# Altium footprint library adafruit.PCBLIB: 643 footprints (part 2 of 41)
Each footprint in its own frame and in the unit in brackets; x right, y up, seen from the top. Pads: shape width x height; smd on the part's side, far side on the other; paste and mask are expansions set on the pad; w line width, h text height; cw(c..) or ccw(c..) is an arc to the next point about the centre after c.
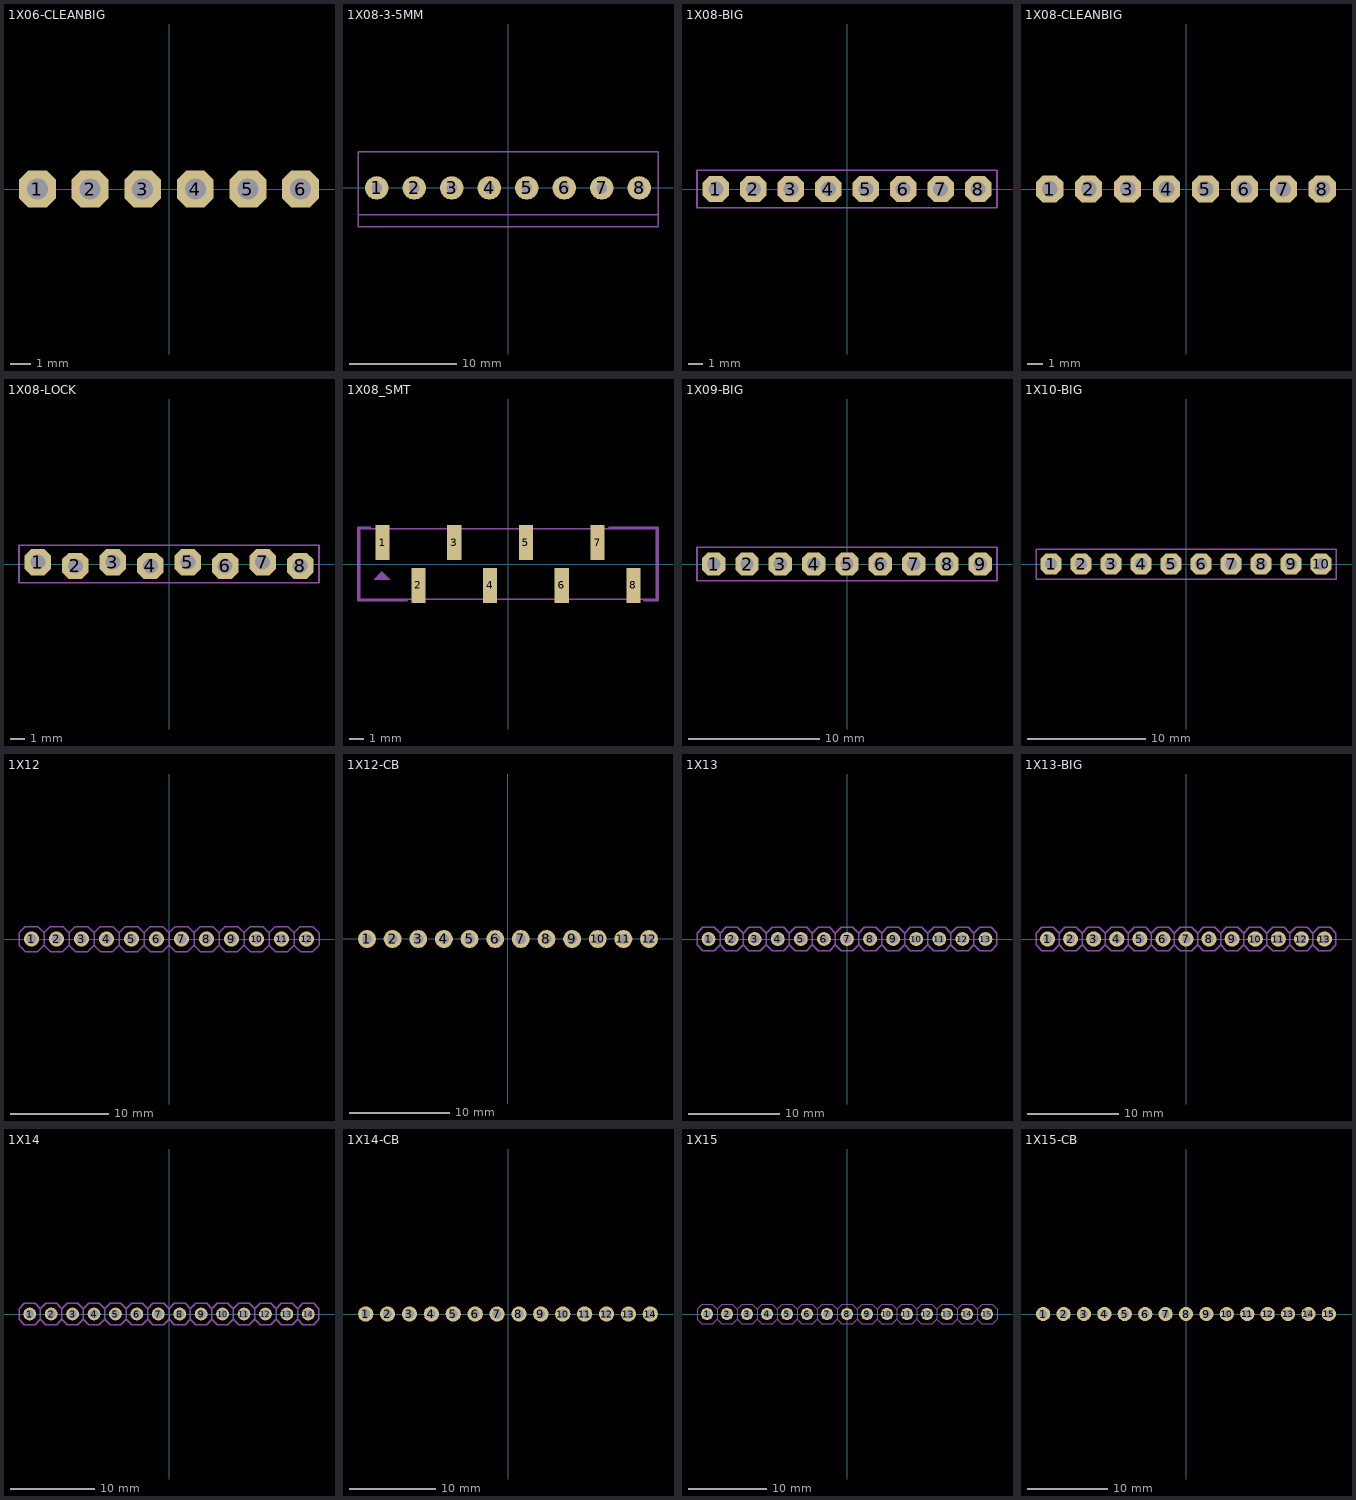
[diagram p1: the footprints below, top view; thin cyan lines are the x and y axes]

## 1X06-CLEANBIG [mil]
pads (6):
  oct 70x70 / inner round 64.67 / far side oct 70x70 hole 40: 1(-250,0) 2(-150,0) 3(-50,0) 4(50,0) 5(150,0) 6(250,0)
tDocu:
  region: 140,-10 140,10 160,10 160,-10
  region: 40,-10 40,10 60,10 60,-10
  region: -60,-10 -60,10 -40,10 -40,-10
  region: -160,-10 -160,10 -140,10 -140,-10
  region: -260,-10 -260,10 -240,10 -240,-10
  region: 240,-10 240,10 260,10 260,-10

## 1X08-3-5MM [mil]
pads (8):
  round 86 hole 39.37: 1(-482.28,0) 2(-344.49,0) 3(-206.69,0) 4(-68.9,0) 5(68.9,0) 6(206.69,0) 7(344.49,0) 8(482.28,0)
tPlace:
  lines w5: -551.18,-98.43 -551.18,133.86 551.18,133.86 551.18,-98.43 ; -551.18,-98.43 -551.18,-141.73 551.18,-141.73 551.18,-98.43 ; -551.18,-98.43 551.18,-98.43

## 1X08-BIG [mil]
pads (8):
  oct 70x70 / inner round 64.67 / far side oct 70x70 hole 40: 1(-350,0) 2(-250,0) 3(-150,0) 4(-50,0) 5(50,0) 6(150,0) 7(250,0) 8(350,0)
tDocu:
  region: 240,-10 240,10 260,10 260,-10
  region: 140,-10 140,10 160,10 160,-10
  region: 40,-10 40,10 60,10 60,-10
  region: -60,-10 -60,10 -40,10 -40,-10
  region: -160,-10 -160,10 -140,10 -140,-10
  region: -260,-10 -260,10 -240,10 -240,-10
  region: -360,-10 -360,10 -340,10 -340,-10
  region: 340,-10 340,10 360,10 360,-10
tPlace:
  lines w5: -400,-50 400,-50 400,50 -400,50 -400,-50

## 1X08-CLEANBIG [mil]
pads (8):
  oct 70x70 / inner round 64.67 / far side oct 70x70 hole 40: 1(-350,0) 2(-250,0) 3(-150,0) 4(-50,0) 5(50,0) 6(150,0) 7(250,0) 8(350,0)
tDocu:
  region: 240,-10 240,10 260,10 260,-10
  region: 140,-10 140,10 160,10 160,-10
  region: 40,-10 40,10 60,10 60,-10
  region: -60,-10 -60,10 -40,10 -40,-10
  region: -160,-10 -160,10 -140,10 -140,-10
  region: -260,-10 -260,10 -240,10 -240,-10
  region: -360,-10 -360,10 -340,10 -340,-10
  region: 340,-10 340,10 360,10 360,-10

## 1X08-LOCK [mil]
pads (8):
  oct 70x70 / inner round 64.67 / far side oct 70x70 hole 40: 1(-350,5) 2(-250,-5) 3(-150,5) 4(-50,-5) 5(50,5) 6(150,-5) 7(250,5) 8(350,-5)
tDocu:
  region: 240,-10 240,10 260,10 260,-10
  region: 140,-10 140,10 160,10 160,-10
  region: 40,-10 40,10 60,10 60,-10
  region: -60,-10 -60,10 -40,10 -40,-10
  region: -160,-10 -160,10 -140,10 -140,-10
  region: -260,-10 -260,10 -240,10 -240,-10
  region: -360,-10 -360,10 -340,10 -340,-10
  region: 340,-10 340,10 360,10 360,-10
tPlace:
  lines w5: -400,-50 400,-50 400,50 -400,50 -400,-50

## 1X08_SMT [mm]
pads (8):
  rect 1x2.5 smd: 1(-8.89,1.52) 2(-6.35,-1.52) 3(-3.81,1.52) 4(-1.27,-1.52) 5(1.27,1.52) 6(3.81,-1.52) 7(6.35,1.52) 8(8.89,-1.52)
tDocu:
  lines w0.127: -10.54,-2.5 10.54,-2.5 10.54,2.5 -10.54,2.5 -10.54,-2.5
tPlace:
  region: -8.94,-0.5 -9.54,-1.1 -8.34,-1.1
  lines w0.127: -9.74,2.6 -10.64,2.6 -10.64,-2.6 -7.14,-2.6 ; 7.14,2.6 10.64,2.6 10.64,-2.6 9.64,-2.6

## 1X09-BIG [mil]
pads (9):
  oct 70x70 / inner round 64.67 / far side oct 70x70 hole 40: 1(-400,0) 2(-300,0) 3(-200,0) 4(-100,0) 5(0,0) 6(100,0) 7(200,0) 8(300,0) 9(400,0)
tDocu:
  region: 190,-10 190,10 210,10 210,-10
  region: 90,-10 90,10 110,10 110,-10
  region: -10,-10 -10,10 10,10 10,-10
  region: -110,-10 -110,10 -90,10 -90,-10
  region: -210,-10 -210,10 -190,10 -190,-10
  region: -310,-10 -310,10 -290,10 -290,-10
  region: -410,-10 -410,10 -390,10 -390,-10
  region: 290,-10 290,10 310,10 310,-10
  region: 390,-10 390,10 410,10 410,-10
tPlace:
  lines w5: -450,-50 450,-50 450,50 -450,50 -450,-50

## 1X10-BIG [mil]
pads (10):
  oct 70x70 / inner round 64.67 / far side oct 70x70 hole 40: 1(-450,0) 2(-350,0) 3(-250,0) 4(-150,0) 5(-50,0) 6(50,0) 7(150,0) 8(250,0) 9(350,0) 10(450,0)
tDocu:
  region: 140,-10 140,10 160,10 160,-10
  region: 40,-10 40,10 60,10 60,-10
  region: -60,-10 -60,10 -40,10 -40,-10
  region: -160,-10 -160,10 -140,10 -140,-10
  region: -260,-10 -260,10 -240,10 -240,-10
  region: -360,-10 -360,10 -340,10 -340,-10
  region: -460,-10 -460,10 -440,10 -440,-10
  region: 240,-10 240,10 260,10 260,-10
  region: 340,-10 340,10 360,10 360,-10
  region: 440,-10 440,10 460,10 460,-10
tPlace:
  lines w5: -500,-50 500,-50 500,50 -500,50 -500,-50

## 1X12 [mil]
pads (12):
  round 60 hole 40: 1(-550,0) 2(-450,0) 3(-350,0) 4(-250,0) 5(-150,0) 6(-50,0) 7(50,0) 8(150,0) 9(250,0) 10(350,0) 11(450,0) 12(550,0)
tDocu:
  region: 440,-10 440,10 460,10 460,-10
  region: 340,-10 340,10 360,10 360,-10
  region: 240,-10 240,10 260,10 260,-10
  region: 140,-10 140,10 160,10 160,-10
  region: 40,-10 40,10 60,10 60,-10
  region: -60,-10 -60,10 -40,10 -40,-10
  region: -160,-10 -160,10 -140,10 -140,-10
  region: -260,-10 -260,10 -240,10 -240,-10
  region: -360,-10 -360,10 -340,10 -340,-10
  region: -460,-10 -460,10 -440,10 -440,-10
  region: -560,-10 -560,10 -540,10 -540,-10
  region: 540,-10 540,10 560,10 560,-10
tPlace:
  lines w6: -500,-25 -500,25 ; -500,-25 -525,-50 -575,-50 -600,-25 -600,25 -575,50 -525,50 -500,25 ; -500,-25 -475,-50 -425,-50 -400,-25 ; -500,25 -475,50 -425,50 -400,25 ; -400,-25 -375,-50 -325,-50 -300,-25 ; -400,-25 -400,25 ; -400,25 -375,50 -325,50 -300,25 ; -300,-25 -300,25 ; -300,-25 -275,-50 -225,-50 -200,-25 ; -300,25 -275,50 -225,50 -200,25 ; -200,-25 -200,25 ; -200,-25 -175,-50 -125,-50 -100,-25 ; -200,25 -175,50 -125,50 -100,25 ; -100,-25 -75,-50 -25,-50 0,-25 ; -100,-25 -100,25 ; -100,25 -75,50 -25,50 0,25 ; 0,-25 0,25 ; 0,-25 25,-50 75,-50 100,-25 ; 0,25 25,50 75,50 100,25 ; 100,-25 100,25 ; 100,-25 125,-50 175,-50 200,-25 ; 100,25 125,50 175,50 200,25 ; 200,-25 225,-50 275,-50 300,-25 ; 200,-25 200,25 ; 200,25 225,50 275,50 300,25 ; 300,-25 300,25 ; 300,-25 325,-50 375,-50 400,-25 ; 300,25 325,50 375,50 400,25 ; 400,-25 400,25 ; 400,-25 425,-50 475,-50 500,-25 ; 400,25 425,50 475,50 500,25 ; 500,-25 500,25 ; 500,-25 525,-50 575,-50 600,-25 600,25 575,50 525,50 500,25

## 1X12-CB [mil]
pads (12):
  round 70 hole 40: 1(-550,0) 2(-450,0) 3(-350,0) 4(-250,0) 5(-150,0) 6(-50,0) 7(50,0) 8(150,0) 9(250,0) 10(350,0) 11(450,0) 12(550,0)
tDocu:
  region: 440,-10 440,10 460,10 460,-10
  region: 340,-10 340,10 360,10 360,-10
  region: 240,-10 240,10 260,10 260,-10
  region: 140,-10 140,10 160,10 160,-10
  region: 40,-10 40,10 60,10 60,-10
  region: -60,-10 -60,10 -40,10 -40,-10
  region: -160,-10 -160,10 -140,10 -140,-10
  region: -260,-10 -260,10 -240,10 -240,-10
  region: -360,-10 -360,10 -340,10 -340,-10
  region: -460,-10 -460,10 -440,10 -440,-10
  region: -560,-10 -560,10 -540,10 -540,-10
  region: 540,-10 540,10 560,10 560,-10

## 1X13 [mil]
pads (13):
  round 60 hole 40: 1(-600,0) 2(-500,0) 3(-400,0) 4(-300,0) 5(-200,0) 6(-100,0) 7(0,0) 8(100,0) 9(200,0) 10(300,0) 11(400,0) 12(500,0) 13(600,0)
tDocu:
  region: 490,-10 490,10 510,10 510,-10
  region: 390,-10 390,10 410,10 410,-10
  region: 290,-10 290,10 310,10 310,-10
  region: 190,-10 190,10 210,10 210,-10
  region: 90,-10 90,10 110,10 110,-10
  region: -10,-10 -10,10 10,10 10,-10
  region: -110,-10 -110,10 -90,10 -90,-10
  region: -210,-10 -210,10 -190,10 -190,-10
  region: -310,-10 -310,10 -290,10 -290,-10
  region: -410,-10 -410,10 -390,10 -390,-10
  region: -510,-10 -510,10 -490,10 -490,-10
  region: -610,-10 -610,10 -590,10 -590,-10
  region: 590,-10 590,10 610,10 610,-10
tPlace:
  lines w6: -550,-25 -550,25 ; -550,-25 -575,-50 -625,-50 -650,-25 -650,25 -625,50 -575,50 -550,25 ; -550,-25 -525,-50 -475,-50 -450,-25 ; -550,25 -525,50 -475,50 -450,25 ; -450,-25 -425,-50 -375,-50 -350,-25 ; -450,-25 -450,25 ; -450,25 -425,50 -375,50 -350,25 ; -350,-25 -350,25 ; -350,-25 -325,-50 -275,-50 -250,-25 ; -350,25 -325,50 -275,50 -250,25 ; -250,-25 -250,25 ; -250,-25 -225,-50 -175,-50 -150,-25 ; -250,25 -225,50 -175,50 -150,25 ; -150,-25 -125,-50 -75,-50 -50,-25 ; -150,-25 -150,25 ; -150,25 -125,50 -75,50 -50,25 ; -50,-25 -50,25 ; -50,-25 -25,-50 25,-50 50,-25 ; -50,25 -25,50 25,50 50,25 ; 50,-25 50,25 ; 50,-25 75,-50 125,-50 150,-25 ; 50,25 75,50 125,50 150,25 ; 150,-25 175,-50 225,-50 250,-25 ; 150,-25 150,25 ; 150,25 175,50 225,50 250,25 ; 250,-25 250,25 ; 250,-25 275,-50 325,-50 350,-25 ; 250,25 275,50 325,50 350,25 ; 350,-25 350,25 ; 350,-25 375,-50 425,-50 450,-25 ; 350,25 375,50 425,50 450,25 ; 450,-25 475,-50 525,-50 550,-25 ; 450,-25 450,25 ; 450,25 475,50 525,50 550,25 ; 550,-25 550,25 ; 550,-25 575,-50 625,-50 650,-25 650,25 625,50 575,50 550,25

## 1X13-BIG [mil]
pads (13):
  round 66 hole 40: 1(-600,0) 2(-500,0) 3(-400,0) 4(-300,0) 5(-200,0) 6(-100,0) 7(0,0) 8(100,0) 9(200,0) 10(300,0) 11(400,0) 12(500,0) 13(600,0)
tDocu:
  region: 490,-10 490,10 510,10 510,-10
  region: 390,-10 390,10 410,10 410,-10
  region: 290,-10 290,10 310,10 310,-10
  region: 190,-10 190,10 210,10 210,-10
  region: 90,-10 90,10 110,10 110,-10
  region: -10,-10 -10,10 10,10 10,-10
  region: -110,-10 -110,10 -90,10 -90,-10
  region: -210,-10 -210,10 -190,10 -190,-10
  region: -310,-10 -310,10 -290,10 -290,-10
  region: -410,-10 -410,10 -390,10 -390,-10
  region: -510,-10 -510,10 -490,10 -490,-10
  region: -610,-10 -610,10 -590,10 -590,-10
  region: 590,-10 590,10 610,10 610,-10
tPlace:
  lines w6: -550,-25 -550,25 ; -550,-25 -575,-50 -625,-50 -650,-25 -650,25 -625,50 -575,50 -550,25 ; -550,-25 -525,-50 -475,-50 -450,-25 ; -550,25 -525,50 -475,50 -450,25 ; -450,-25 -425,-50 -375,-50 -350,-25 ; -450,-25 -450,25 ; -450,25 -425,50 -375,50 -350,25 ; -350,-25 -350,25 ; -350,-25 -325,-50 -275,-50 -250,-25 ; -350,25 -325,50 -275,50 -250,25 ; -250,-25 -250,25 ; -250,-25 -225,-50 -175,-50 -150,-25 ; -250,25 -225,50 -175,50 -150,25 ; -150,-25 -125,-50 -75,-50 -50,-25 ; -150,-25 -150,25 ; -150,25 -125,50 -75,50 -50,25 ; -50,-25 -50,25 ; -50,-25 -25,-50 25,-50 50,-25 ; -50,25 -25,50 25,50 50,25 ; 50,-25 50,25 ; 50,-25 75,-50 125,-50 150,-25 ; 50,25 75,50 125,50 150,25 ; 150,-25 175,-50 225,-50 250,-25 ; 150,-25 150,25 ; 150,25 175,50 225,50 250,25 ; 250,-25 250,25 ; 250,-25 275,-50 325,-50 350,-25 ; 250,25 275,50 325,50 350,25 ; 350,-25 350,25 ; 350,-25 375,-50 425,-50 450,-25 ; 350,25 375,50 425,50 450,25 ; 450,-25 475,-50 525,-50 550,-25 ; 450,-25 450,25 ; 450,25 475,50 525,50 550,25 ; 550,-25 550,25 ; 550,-25 575,-50 625,-50 650,-25 650,25 625,50 575,50 550,25

## 1X14 [mil]
pads (14):
  round 60 hole 40: 1(-650,0) 2(-550,0) 3(-450,0) 4(-350,0) 5(-250,0) 6(-150,0) 7(-50,0) 8(50,0) 9(150,0) 10(250,0) 11(350,0) 12(450,0) 13(550,0) 14(650,0)
tDocu:
  region: 540,-10 540,10 560,10 560,-10
  region: 440,-10 440,10 460,10 460,-10
  region: 340,-10 340,10 360,10 360,-10
  region: 240,-10 240,10 260,10 260,-10
  region: 140,-10 140,10 160,10 160,-10
  region: 40,-10 40,10 60,10 60,-10
  region: -60,-10 -60,10 -40,10 -40,-10
  region: -160,-10 -160,10 -140,10 -140,-10
  region: -260,-10 -260,10 -240,10 -240,-10
  region: -360,-10 -360,10 -340,10 -340,-10
  region: -460,-10 -460,10 -440,10 -440,-10
  region: -560,-10 -560,10 -540,10 -540,-10
  region: -660,-10 -660,10 -640,10 -640,-10
  region: 640,-10 640,10 660,10 660,-10
tPlace:
  lines w6: -600,-25 -600,25 ; -600,-25 -625,-50 -675,-50 -700,-25 -700,25 -675,50 -625,50 -600,25 ; -600,-25 -575,-50 -525,-50 -500,-25 ; -600,25 -575,50 -525,50 -500,25 ; -500,-25 -475,-50 -425,-50 -400,-25 ; -500,-25 -500,25 ; -500,25 -475,50 -425,50 -400,25 ; -400,-25 -400,25 ; -400,-25 -375,-50 -325,-50 -300,-25 ; -400,25 -375,50 -325,50 -300,25 ; -300,-25 -300,25 ; -300,-25 -275,-50 -225,-50 -200,-25 ; -300,25 -275,50 -225,50 -200,25 ; -200,-25 -175,-50 -125,-50 -100,-25 ; -200,-25 -200,25 ; -200,25 -175,50 -125,50 -100,25 ; -100,-25 -100,25 ; -100,-25 -75,-50 -25,-50 0,-25 ; -100,25 -75,50 -25,50 0,25 ; 0,-25 0,25 ; 0,-25 25,-50 75,-50 100,-25 ; 0,25 25,50 75,50 100,25 ; 100,-25 125,-50 175,-50 200,-25 ; 100,-25 100,25 ; 100,25 125,50 175,50 200,25 ; 200,-25 200,25 ; 200,-25 225,-50 275,-50 300,-25 ; 200,25 225,50 275,50 300,25 ; 300,-25 300,25 ; 300,-25 325,-50 375,-50 400,-25 ; 300,25 325,50 375,50 400,25 ; 400,-25 425,-50 475,-50 500,-25 ; 400,-25 400,25 ; 400,25 425,50 475,50 500,25 ; 500,-25 500,25 ; 500,-25 525,-50 575,-50 600,-25 ; 500,25 525,50 575,50 600,25 ; 600,-25 600,25 ; 600,-25 625,-50 675,-50 700,-25 700,25 675,50 625,50 600,25

## 1X14-CB [mil]
pads (14):
  round 70 hole 40: 1(-650,0) 2(-550,0) 3(-450,0) 4(-350,0) 5(-250,0) 6(-150,0) 7(-50,0) 8(50,0) 9(150,0) 10(250,0) 11(350,0) 12(450,0) 13(550,0) 14(650,0)
tDocu:
  region: 540,-10 540,10 560,10 560,-10
  region: 440,-10 440,10 460,10 460,-10
  region: 340,-10 340,10 360,10 360,-10
  region: 240,-10 240,10 260,10 260,-10
  region: 140,-10 140,10 160,10 160,-10
  region: 40,-10 40,10 60,10 60,-10
  region: -60,-10 -60,10 -40,10 -40,-10
  region: -160,-10 -160,10 -140,10 -140,-10
  region: -260,-10 -260,10 -240,10 -240,-10
  region: -360,-10 -360,10 -340,10 -340,-10
  region: -460,-10 -460,10 -440,10 -440,-10
  region: -560,-10 -560,10 -540,10 -540,-10
  region: -660,-10 -660,10 -640,10 -640,-10
  region: 640,-10 640,10 660,10 660,-10

## 1X15 [mil]
pads (15):
  round 60 hole 40: 1(-700,0) 2(-600,0) 3(-500,0) 4(-400,0) 5(-300,0) 6(-200,0) 7(-100,0) 8(0,0) 9(100,0) 10(200,0) 11(300,0) 12(400,0) 13(500,0) 14(600,0) 15(700,0)
tDocu:
  region: 590,-10 590,10 610,10 610,-10
  region: 490,-10 490,10 510,10 510,-10
  region: 390,-10 390,10 410,10 410,-10
  region: 290,-10 290,10 310,10 310,-10
  region: 190,-10 190,10 210,10 210,-10
  region: 90,-10 90,10 110,10 110,-10
  region: -10,-10 -10,10 10,10 10,-10
  region: -110,-10 -110,10 -90,10 -90,-10
  region: -210,-10 -210,10 -190,10 -190,-10
  region: -310,-10 -310,10 -290,10 -290,-10
  region: -410,-10 -410,10 -390,10 -390,-10
  region: -510,-10 -510,10 -490,10 -490,-10
  region: -610,-10 -610,10 -590,10 -590,-10
  region: -710,-10 -710,10 -690,10 -690,-10
  region: 690,-10 690,10 710,10 710,-10
tPlace:
  lines w6: -650,-25 -650,25 ; -650,-25 -675,-50 -725,-50 -750,-25 -750,25 -725,50 -675,50 -650,25 ; -650,-25 -625,-50 -575,-50 -550,-25 ; -650,25 -625,50 -575,50 -550,25 ; -550,-25 -525,-50 -475,-50 -450,-25 ; -550,-25 -550,25 ; -550,25 -525,50 -475,50 -450,25 ; -450,-25 -450,25 ; -450,-25 -425,-50 -375,-50 -350,-25 ; -450,25 -425,50 -375,50 -350,25 ; -350,-25 -350,25 ; -350,-25 -325,-50 -275,-50 -250,-25 ; -350,25 -325,50 -275,50 -250,25 ; -250,-25 -225,-50 -175,-50 -150,-25 ; -250,-25 -250,25 ; -250,25 -225,50 -175,50 -150,25 ; -150,-25 -150,25 ; -150,-25 -125,-50 -75,-50 -50,-25 ; -150,25 -125,50 -75,50 -50,25 ; -50,-25 -50,25 ; -50,-25 -25,-50 25,-50 50,-25 ; -50,25 -25,50 25,50 50,25 ; 50,-25 75,-50 125,-50 150,-25 ; 50,-25 50,25 ; 50,25 75,50 125,50 150,25 ; 150,-25 150,25 ; 150,-25 175,-50 225,-50 250,-25 ; 150,25 175,50 225,50 250,25 ; 250,-25 250,25 ; 250,-25 275,-50 325,-50 350,-25 ; 250,25 275,50 325,50 350,25 ; 350,-25 375,-50 425,-50 450,-25 ; 350,-25 350,25 ; 350,25 375,50 425,50 450,25 ; 450,-25 450,25 ; 450,-25 475,-50 525,-50 550,-25 ; 450,25 475,50 525,50 550,25 ; 550,-25 550,25 ; 550,-25 575,-50 625,-50 650,-25 ; 550,25 575,50 625,50 650,25 ; 650,-25 650,25 ; 650,-25 675,-50 725,-50 750,-25 750,25 725,50 675,50 650,25

## 1X15-CB [mil]
pads (15):
  round 70 hole 40: 1(-700,0) 2(-600,0) 3(-500,0) 4(-400,0) 5(-300,0) 6(-200,0) 7(-100,0) 8(0,0) 9(100,0) 10(200,0) 11(300,0) 12(400,0) 13(500,0) 14(600,0) 15(700,0)